# Altium integrated library SJ-435107.IntLib: 1 symbol
Pins are listed as number, name and electrical type; pins without a type are passive.

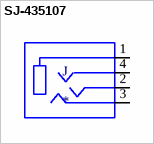
[diagram p0: symbol SJ-435107]

## SJ-435107
designator J
3.5 mm, 4 Conductors, Right Angle, Through Hole, Spring Tabs,  Shielded, Audio Jack Connector; MP: SJ-435107; MF: CUI Devices; Package: None; CUI_purchase_URL: https://www.cuidevices.com/product/interconnect/connectors/audio-connectors/jacks/sj-435107-series?utm_source=snapeda.com&utm_medium=referral&utm_campaign=snapedaBOM; Value: *; Price: None; Availability: Unavailable; SnapEDA_Link: https://www.snapeda.com/parts/SJ-435107/CUI%20Devices/view-part/533929/?ref=snap
footprint CUI_SJ-435107
pins: 1 SLEEVE, 2 TIP, 3 RING1, 4 RING2